# Altium schematic symbol library SL_Leds.SchLib: 6 symbols
Pins are listed as number, name and electrical type; pins without a type are passive.

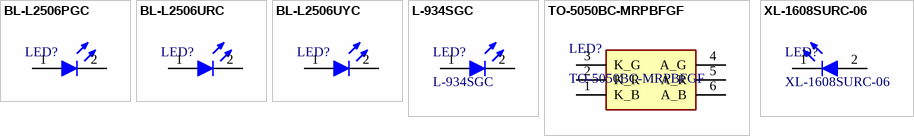
[diagram p0: symbols BL-L2506PGC to XL-1608SURC-06]

## BL-L2506PGC
designator LED?  (value not drawn)
LED, Green
footprint BL-L2506
pins: 1, 2

## BL-L2506URC
designator LED?  (value not drawn)
LED, Red
footprint BL-L2506
pins: 1, 2

## BL-L2506UYC
designator LED?  (value not drawn)
LED, Yellow
footprint BL-L2506
pins: 1, 2

## L-934SGC
designator LED?
LED, Green; Manufacturer_Name: Kingbright; Datasheet Link: https://www.farnell.com/datasheets/67056.pdf?_gl=1*1hott6g*_gcl_au*MTg3NTY3NTU3OC4xNzI5NTA1NDQ2; Height: 5.9mm; Manufacturer_Part_Number: L-934SGC; Arrow Part Number: L-934SGC; Arrow Price/Stock: https://www.arrow.com/en/products/l-934sgc/kingbright?region=europe
footprint L934SGC
pins: 1, 2

## TO-5050BC-MRPBFGF
designator LED?
LED, RGB; Manufacturer_Name: Oasistek; Datasheet Link: https://static.chipdip.ru/lib/736/DOC002736076.pdf; Height: 2.1mm; Manufacturer_Part_Number: TO-5050BC-MRPBFGF
footprint TO5050BCMRPBFGF
pins: 1 K_B, 2 K_R, 3 K_G, 4 A_G, 5 A_R, 6 A_B

## XL-1608SURC-06
designator LED?
LED, Red; Manufacturer_Name: XINGLIGHT; Datasheet Link: https://www.xinglight.cn/uploadfile/202508/af5007a617ab23a.pdf; Height: 0.85mm; Manufacturer_Part_Number: XL-1608SURC-06
footprint XL1608SURC06
pins: 1, 2